# EAGLE library part LT8316 (library HyTechDevices)
LT8316 560VIN Micropower No-Opto Isolated Flyback Controller Datasheet <https://www.mouser.com/datasheet/2/609/LT8316-1545981.pdf>
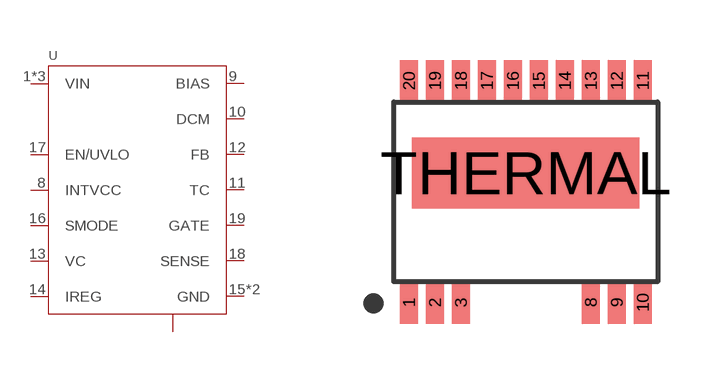
[diagram p60: symbol with the pads of TSSOP-20(16); footprint TSSOP-20(16)]

Designator prefix U

## LT8316 (DKPN: 505-LT8316EFE#PBF-ND; MANUFACTURER: Analog Devices; MOPN: 584-LT8316EFE#PBF; MPN: LT8316EFE#PBF)  [TSSOP-20(16)]
1  VIN  in
2  VIN  in
3  VIN  in
8  INTVCC
9  BIAS
10  DCM
11  TC
12  FB
13  VC
14  IREG
15  GND
16  SMODE
17  EN/UVLO
18  SENSE
19  GATE
20  GND
THERMAL  P$1  out

## Footprint TSSOP-20(16) (pad centres in mm)
TSSOP-20 with 4 pins removed
smd 0.45 x 1.05: 1 -2.925,-2.775; 2 -2.275,-2.775; 3 -1.625,-2.775; 8 1.625,-2.775; 9 2.275,-2.775; 10 2.925,-2.775; 11 2.925,2.775; 12 2.275,2.775; 13 1.625,2.775; 14 0.975,2.775; 15 0.325,2.775; 16 -0.325,2.775; 17 -0.975,2.775; 18 -1.625,2.775; 19 -2.275,2.775; 20 -2.925,2.775
smd 5.68 x 1.78: THERMAL 0,0.47